# Altium schematic symbol library SCH - POWER - LINEAR VREG - TI SM72238_NDP_3.SchLib: 1 symbol
Pins are listed as number, name and electrical type; pins without a type are passive.

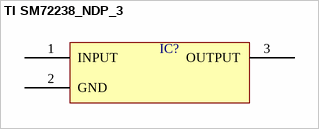
[diagram p0: symbol TI SM72238_NDP_3]

## TI SM72238_NDP_3
designator IC?  (value not drawn)
pins: 1 INPUT, 2 GND, 3 OUTPUT